# EAGLE library part STN2100 (library DAWA-MAIN-7.0)
Multiprotocol OBD II to UART Interpreter, QFN Package This part, the STN2100, is a preprogrammed pic from ScanTool. Contact: vit@scantool.net
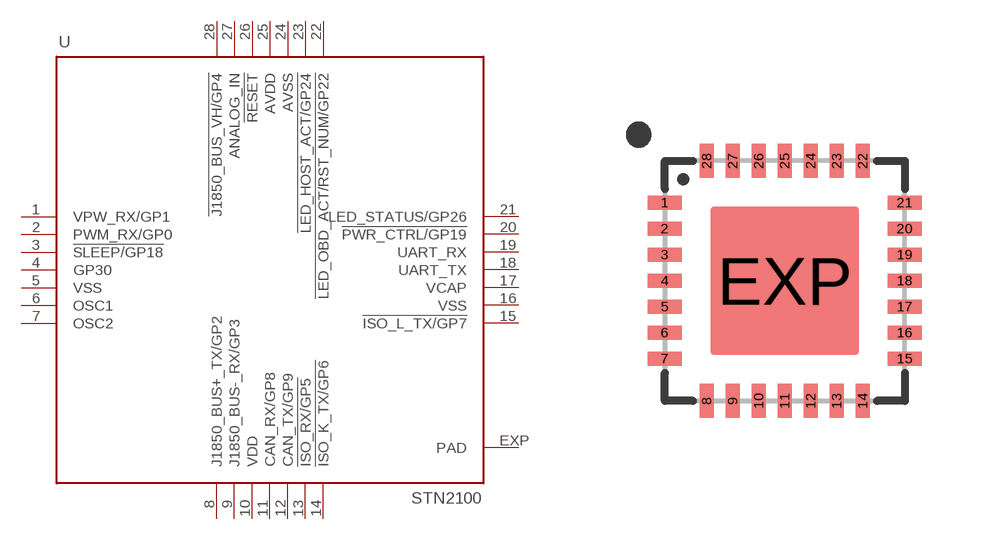
[diagram p15: symbol with the pads of QFN-28-S; footprint QFN-28-S]

Designator prefix U

## STN2100  [QFN-28-S]
1  VPW_RX/GP1  in
2  PWM_RX/GP0  in
3  !SLEEP/GP18  out
4  GP30  out
5  VSS  pwr
6  OSC1  in
7  OSC2  out
8  J1850_BUS+_TX/GP2  in
9  J1850_BUS-_RX/GP3  in
10  VDD  pwr
11  CAN_RX/GP8  in
12  CAN_TX/GP9  out
13  !ISO_RX/GP5  in
14  !ISO_K_TX/GP6  out
15  !ISO_L_TX/GP7  out
16  VSS  pwr
17  VCAP  pwr
18  UART_TX
19  UART_RX  out
20  !PWR_CTRL/GP19  out
21  LED_STATUS/GP26  out
22  !LED_OBD_ACT/RST_NUM/GP22  out
23  !LED_HOST_ACT/GP24  out
24  AVSS  pwr
25  AVDD  pwr
26  !RESET  in
27  ANALOG_IN  in
28  !J1850_BUS_VH/GP4  out
EXP  PAD  pas

## Footprint QFN-28-S (pad centres in mm)
Quad Flat No Leads Package Specifications: Pin count:28 Example device(s): SCANTOOL Change Log Date Author Change March 23, 2010 joe@scantool.net Added t-keepout layer. March 22, 2010 engineering@scantool.net Resized per PIC24HJ64GPx02 (QFN-S) datasheet. Fixed tStop and tCream layers. Redesigned silkscreen. March 17, 2010 vitaliy@scantool.net Verified package. March 17, 2010 jason@scantool.net Increased silkscreen ratio. March 02, 2010 jason@scantool.net Copied from Microchip Library.
smd 0.85 x 0.35: 1 -3,1.95; 2 -3,1.3; 3 -3,0.65; 4 -3,0; 5 -3,-0.65; 6 -3,-1.3; 7 -3,-1.95; 15 3,-1.95; 16 3,-1.3; 17 3,-0.65; 18 3,0; 19 3,0.65; 20 3,1.3; 21 3,1.95
smd 0.35 x 0.85: 8 -1.95,-3; 9 -1.3,-3; 10 -0.65,-3; 11 0,-3; 12 0.65,-3; 13 1.3,-3; 14 1.95,-3; 22 1.95,3; 23 1.3,3; 24 0.65,3; 25 0,3; 26 -0.65,3; 27 -1.3,3; 28 -1.95,3
smd 3.7 x 3.7: EXP 0,0